# Altium footprint library IoT_EM_ADE7758_v0.PcbLib: 12 footprints
Each footprint in its own frame and in the unit in brackets; x right, y up, seen from the top. Pads: shape width x height; smd on the part's side, far side on the other; paste and mask are expansions set on the pad; w line width, h text height; cw(c..) or ccw(c..) is an arc to the next point about the centre after c.
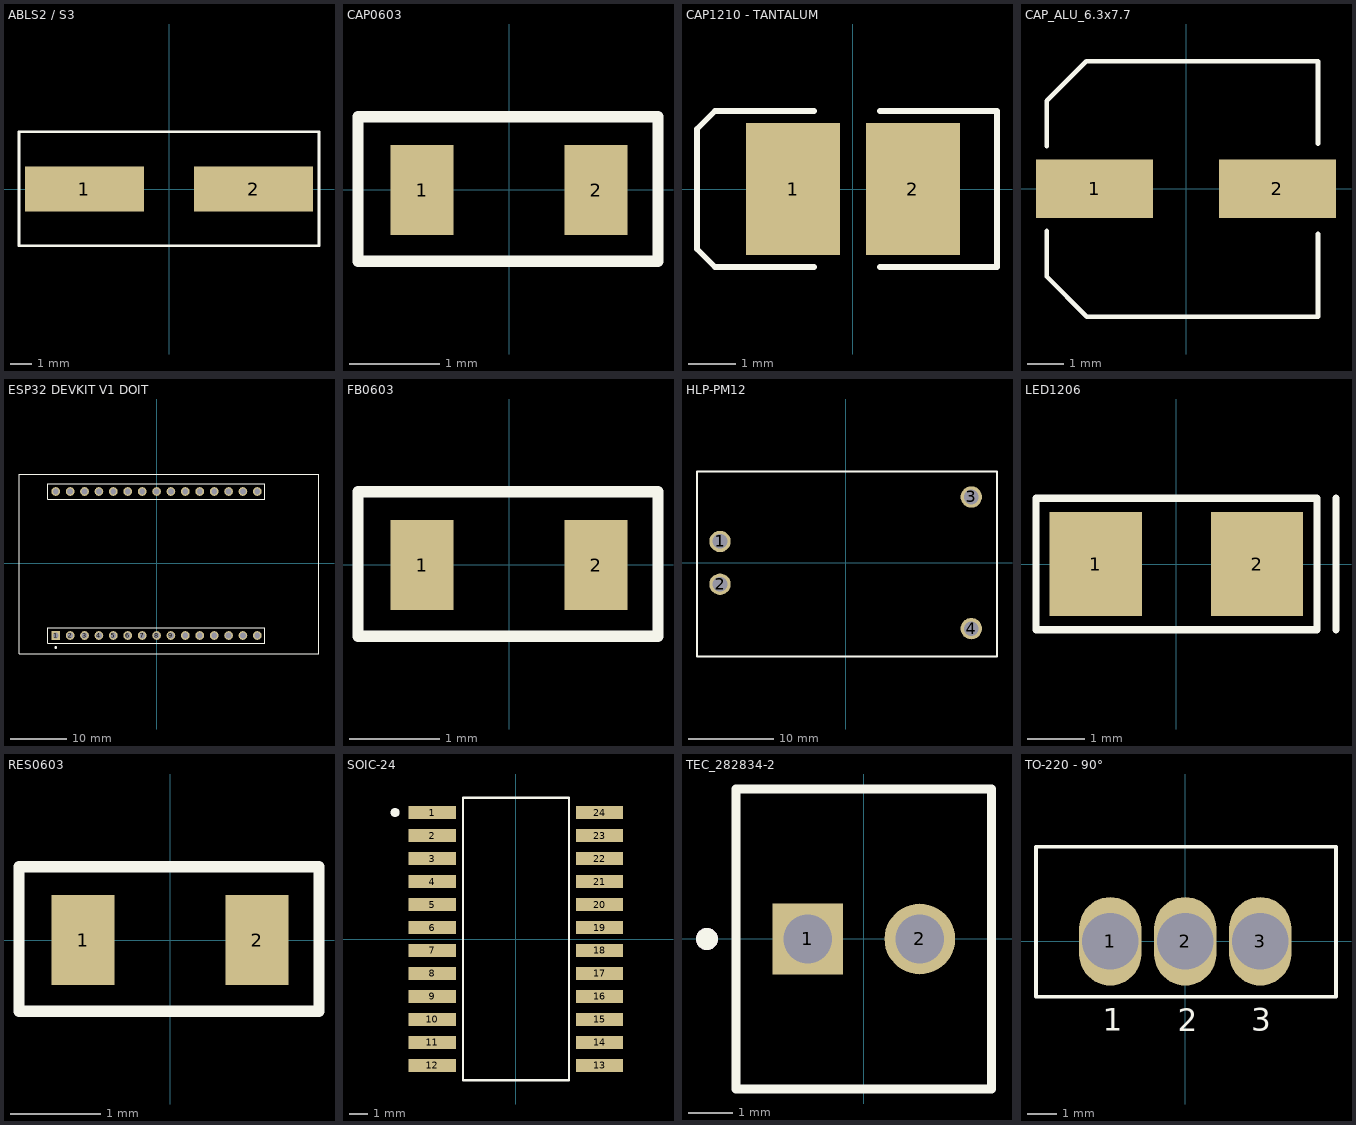
[diagram p0: the footprints below, top view; thin cyan lines are the x and y axes]

## ABLS2 / S3 [mm] "CRYSTAL ABSLS2 / S3"
pads (2):
  rect 5.6x2.1 smd: 1(-3.988,0) 2(3.988,0)
Top Overlay:
  lines w0.127: -7.061,-2.667 7.061,-2.667 7.061,2.692 -7.061,2.692 -7.061,-1.143 -7.061,-2.667
3D body "Crystal_ABLS2.step": height 4, standoff 0, extent -6.65,-2.425 6.65,2.425

## CAP0603 [mm] "Chip Capacitor, Body 0603 IPC Low Density"
height 0.85
pads (2):
  rect 0.7x1 smd: 1(-0.965,-0.003) 2(0.965,-0.003)
Top Overlay:
  lines w0.127: -1.676,-0.791 1.651,-0.791 1.651,0.809 -1.676,0.809 -1.676,-0.791
3D body "CAP0603.step": height 0.3, standoff 0, extent -0.8,-0.4 0.8,0.4

## CAP1210 - TANTALUM [mm]
height 2
pads (2):
  rect 2x2.8 smd: 1(-1.27,0) 2(1.27,0)
Top Overlay:
  lines w0.127: -0.826,-1.651 -2.921,-1.651 -3.302,-1.27 -3.302,1.27 -2.921,1.651 -0.826,1.651 ; 0.572,-1.651 3.048,-1.651 3.048,1.651 0.572,1.651
3D body "CAP1411-TAN.step": height 2.03, standoff 0, extent -1.85,-1.465 1.85,1.465

## CAP_ALU_6.3x7.7 [mm] "D:6.3; H:7.7"
height 7.7
pads (2):
  rect 3.2x1.6 smd: 1(-2.5,0) 2(2.5,0)
Top Overlay:
  lines w0.127: -3.81,-1.16 -3.81,-2.405 -2.709,-3.505 3.607,-3.505 3.607,-1.236 ; -3.81,1.151 -3.81,2.396 -2.726,3.48 3.607,3.48 3.607,1.228
3D body "CAP_ALU_6.3x7.7.step": height 8.11, standoff 0, extent -3.5,-3.3 3.5,3.3

## ESP32 DEVKIT V1 DOIT [mil] "DEVELOPMENT KIT ESP 32"
pads (30):
  rect 60x60 hole 40: 1(-700,-500)
  round 60 hole 40: 2(-600,-500) 3(-500,-500) 4(-400,-500) 5(-300,-500) 6(-200,-500) 7(-100,-500) 8(0,-500) 9(100,-500) 10(200,-500) 11(300,-500) 12(400,-500) 13(500,-500) 14(600,-500) 15(700,-500) 16(700,500) 17(600,500) 18(500,500) 19(400,500) 20(300,500) 21(200,500) 22(100,500) 23(0,500) 24(-100,500) 25(-200,500) 26(-300,500) 27(-400,500) 28(-500,500) 29(-600,500) 30(-700,500)
Top Overlay:
  circle w9.84: c-699.92,-584 r4.92
  lines w5: -955,-625 -955,618 1128,618 1128,-625 -955,-625 ; -754,-555 752,-555 752,-446 -754,-446 -754,-555 ; -754,445 -754,554 752,554 752,445 -754,445
3D body "ESP-32_v1 DOIT.STEP": height 283.46, standoff -204.72, extent -909,-565.05 1096.12,557

## FB0603 [mm] "Ferrite Bead, Body 0603 IPC Low Density"
height 0.6
pads (2):
  rect 0.7x1 smd: 1(-0.965,-0.003) 2(0.965,-0.003)
Top Overlay:
  lines w0.127: -1.676,-0.791 1.651,-0.791 1.651,0.809 -1.676,0.809 -1.676,-0.791
3D body "FB0603.step": height 0.76, standoff 0, extent -0.762,-0.381 0.762,0.381

## HLP-PM12 [mm] "AC/DC MODULE"
pads (4):
  round 2.5 hole 1.7: 1(-14.7,2.5) 2(-14.7,-2.5) 3(14.7,7.7) 4(14.7,-7.7)
Top Overlay:
  lines w0.254: -17.392,-10.973 17.704,-10.973 17.704,10.693 -17.392,10.693 -17.392,0 -17.392,-10.973
3D body "HLK-PMxx.step": height 15.1, standoff -5, extent -17.007,-10.192 16.993,10.008

## LED1206 [mm]
height 1.75
pads (2):
  rect 1.6x1.8 smd: 1(-1.4,0) 2(1.4,0)
Top Overlay:
  lines w0.127: 2.769,-1.143 2.769,1.143 ; -2.438,-1.143 2.438,-1.143 2.438,1.143 -2.438,1.143 -2.438,-1.143
3D body "LED1206_GREEN.step": height 1.1, standoff 0, extent -1.6,-0.8 1.6,0.8

## RES0603 [mm] "Chip Resistor, Body 0603 IPC Low Density"
height 0.6
pads (2):
  rect 0.7x1 smd: 1(-0.965,0) 2(0.965,0)
Top Overlay:
  lines w0.127: -1.676,-0.787 -1.676,0.813 1.651,0.813 1.651,-0.787 -1.676,-0.787
3D body "RES0603.step": height 0.45, standoff 0, extent -0.8,-0.407 0.8,0.413

## SOIC-24 [mm] "SOIC, 24-Leads, Body 15,6x7,6mm (max), Pitch 1,27mm, IPC Low Density"
height 2.35
pads (24):
  rect 2.6x0.7 smd: 1(-4.625,6.985) 2(-4.625,5.715) 3(-4.625,4.445) 4(-4.625,3.175) 5(-4.625,1.905) 6(-4.625,0.635) 7(-4.625,-0.635) 8(-4.625,-1.905) 9(-4.625,-3.175) 10(-4.625,-4.445) 11(-4.625,-5.715) 12(-4.625,-6.985) 13(4.625,-6.985) 14(4.625,-5.715) 15(4.625,-4.445) 16(4.625,-3.175) 17(4.625,-1.905) 18(4.625,-0.635) 19(4.625,0.635) 20(4.625,1.905) 21(4.625,3.175) 22(4.625,4.445) 23(4.625,5.715) 24(4.625,6.985)
Top Overlay:
  circle w0.25: c-6.678,6.985 r0.125
  lines w0.127: -2.925,-7.8 -2.925,7.8 2.925,7.8 2.925,-7.8 -2.925,-7.8
3D body "SOIC-24.STEP": height 2.6, standoff 0, extent -5.091,-7.852 5.309,7.548

## TEC_282834-2 [mm] "TEC"
height 10.3
pads (2):
  rect 1.6x1.6 hole 1.1: 1(-1.27,0)
  round 1.6 hole 1.1: 2(1.27,0)
Top Overlay:
  circle w0.3: c-3.556,0 r0.1
  lines w0.2: -2.895,-3.4 -2.895,3.4 2.895,3.4 2.895,-3.4 -2.895,-3.4
Mechanical 5:
  circle w0.3: c-3.556,0 r0.1
  lines w0.1: -2.895,-3.4 -2.895,3.4 2.895,3.4 2.895,-3.4 -2.895,-3.4
3D body "TEC_282834-2.stp": height 10.01, standoff -3.39, extent -2.77,-3.25 2.77,3.25

## TO-220 - 90° [mm] "TO-220 - 90°"
height 4.83
pads (3):
  oval 2.1x3 hole 1.9: 1(-2.54,0) 2(0,0) 3(2.54,0)
Top Overlay:
  lines w0.127: -5.055,-1.88 5.105,-1.88 5.105,3.2 -5.055,3.2 -5.055,-1.88
  text "1" at -2.794,-3.023 h0.76
  text "3" at 2.235,-3.023 h0.76
  text "2" at -0.254,-3.045 h0.76
3D body "TO-220HS.step": height 15.54, standoff -6.81, extent -5.055,-1.372 5.105,3.2